# EAGLE library part 74LVC125ADB (library SamacSys_Parts)
IC, Logic, 7400, Driver Buffer, SMT, 74LVC125ADB Source: Datasheet <https://assets.nexperia.com/documents/data-sheet/74LVC125A.pdf>
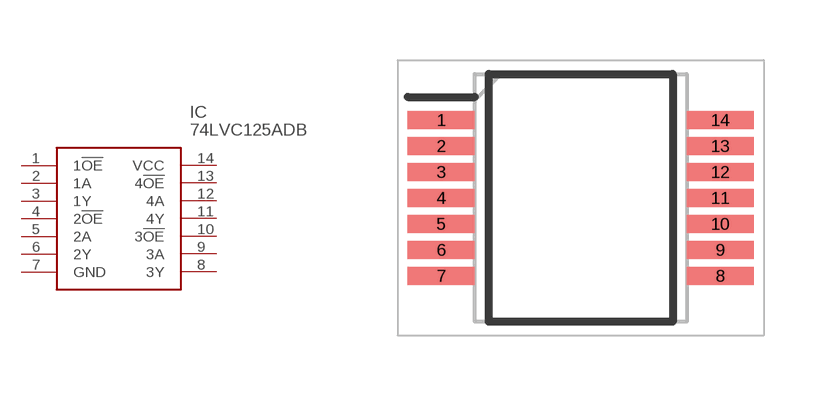
[diagram p254: symbol with the pads of SOP65P775X200-14N; footprint SOP65P775X200-14N]

Designator prefix IC

## 74LVC125ADB (ARROW_PART_NUMBER: 74LVC125ADB; DESCRIPTION: IC, Logic, 7400, Driver Buffer, SMT, 74LVC125ADB; HEIGHT: 2mm; MANUFACTURER_NAME: Nexperia; MANUFACTURER_PART_NUMBER: 74LVC125ADB; MOUSER_PART_NUMBER: 771-74LVC125ADB; MOUSER_PRICE-STOCK: https://www.mouser.co.uk/ProductDetail/Nexperia/74LVC125ADB?qs=84A%2FDAdkstIntZCPwoGbpw%3D%3D)  [SOP65P775X200-14N]
1  1!OE
2  1A
3  1Y
4  2!OE
5  2A
6  2Y
7  GND
8  3Y
9  3A
10  3!OE
11  4Y
12  4A
13  4!OE
14  VCC

## Footprint SOP65P775X200-14N (pad centres in mm)
SSOP14 (SOT337-1)
smd 1.675 x 0.45: 1 -3.488,1.95; 2 -3.488,1.3; 3 -3.488,0.65; 4 -3.488,0; 5 -3.488,-0.65; 6 -3.488,-1.3; 7 -3.488,-1.95; 8 3.488,-1.95; 9 3.488,-1.3; 10 3.488,-0.65; 11 3.488,0; 12 3.488,0.65; 13 3.488,1.3; 14 3.488,1.95